# Altium footprint library sustentationAvecPC.PcbLib: 19 footprints (part 2 of 2)
Each footprint in its own frame and in the unit in brackets; x right, y up, seen from the top. Pads: shape width x height; smd on the part's side, far side on the other; paste and mask are expansions set on the pad; w line width, h text height; cw(c..) or ccw(c..) is an arc to the next point about the centre after c.
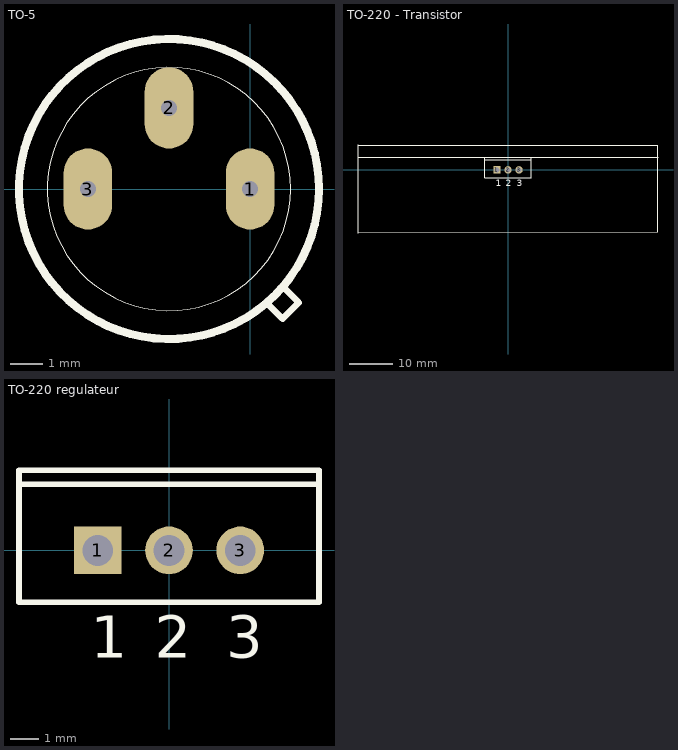
[diagram p1: the footprints below, top view; thin cyan lines are the x and y axes]

## TO-5 [mil]
pads (3):
  oval 60x100 hole 19.68: 1(0,0) 2(-100,100) 3(-200,0)
Top Overlay:
  circle w10: c-100,0 r185
  circle w1: c-100,0 r150
  lines w8: 20,-140 40,-160 60,-140 40,-120

## TO-220 - Transistor [mm] "TO, Thru-Hole, Vertical, Heatsink Mounted; 3 In-Line Leads; Pitch 2.54 mm"
height 22.9
pads (3):
  rect 1.7x1.7 hole 1.1: 1(-2.54,0)
  round 1.7 hole 1.1: 2(0,0) 3(2.54,0)
Top Overlay:
  lines w0.2: -34.5,2.85 34.5,2.85 ; -5.35,2.35 5.35,2.35 ; -5.35,2.85 -5.35,-1.85 5.35,-1.85 5.35,2.85
  lines w0.254: -34.5,-14.561 -34.5,3.048 ; -34.5,-14.351 34.417,-14.224 34.417,2.85 ; -34.5,2.85 -34.5,5.759 ; -34.29,5.715 34.417,5.715 34.417,3.048
  text "1" at -2.79,-3.825 h1.5
  text "2" at -0.5,-3.825 h1.5
  text "3" at 2.04,-3.825 h1.5

## TO-220 regulateur [mm] "TO, Thru-Hole, Vertical, Heatsink Mounted; 3 In-Line Leads; Pitch 2.54 mm"
height 22.9
pads (3):
  rect 1.7x1.7 hole 1.1: 1(-2.54,0)
  round 1.7 hole 1.1: 2(0,0) 3(2.54,0)
Top Overlay:
  lines w0.2: -5.35,2.35 5.35,2.35 ; -5.35,-1.85 5.35,-1.85 5.35,2.85 -5.35,2.85 -5.35,-1.85
  text "1" at -2.79,-3.825 h1.5
  text "2" at -0.5,-3.825 h1.5
  text "3" at 2.04,-3.825 h1.5